# Altium footprint library PCB - SWITCH - C&K KSS.PcbLib: 1 footprints
Each footprint in its own frame and in the unit in brackets; x right, y up, seen from the top. Pads: shape width x height; smd on the part's side, far side on the other; paste and mask are expansions set on the pad; w line width, h text height; cw(c..) or ccw(c..) is an arc to the next point about the centre after c.
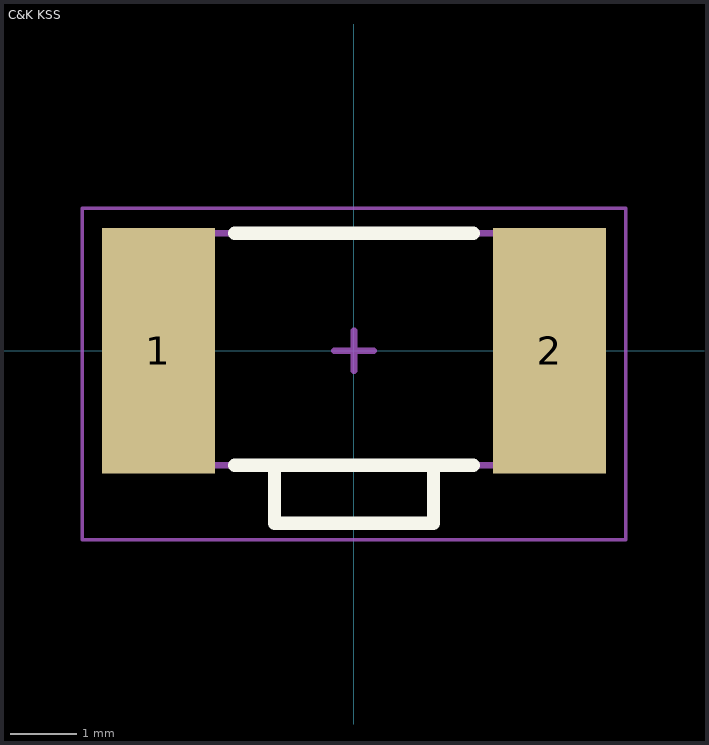
[diagram p0: the footprint, top view; thin cyan lines are the x and y axes]

## C&K KSS [mm] "SMT Switch, 2-leads, body 5.5x3.5mm, C&K KSS331GLFS"
height 1.7
pads (2):
  rect 1.7x3.7 smd mask+0.1: 1(-2.95,0) 2(2.95,0)
Top Overlay:
  lines w0.2: -1.8,-1.725 1.8,-1.725 ; -1.8,1.775 1.8,1.775 ; -1.2,-1.725 -1.2,-2.6 1.2,-2.6 1.2,-1.725
Mechanical 13:
  lines w0.1: -2.75,-1.725 2.75,-1.725 2.75,1.775 -2.75,1.775 -2.75,-1.725
Mechanical 15:
  lines w0.05: -4.1,-2.85 -4.1,2.15 4.1,2.15 4.1,-2.85 -4.1,-2.85
  lines w0.1: -0.3,0 0.3,0 ; 0,-0.3 0,0.3
3D body "C&K - KSS.step": height 2.28, standoff 0, extent -3.5,-2.65 3.5,1.762